# Altium integrated library Antenna.IntLib: 4 symbols
Pins are listed as number, name and electrical type; pins without a type are passive.

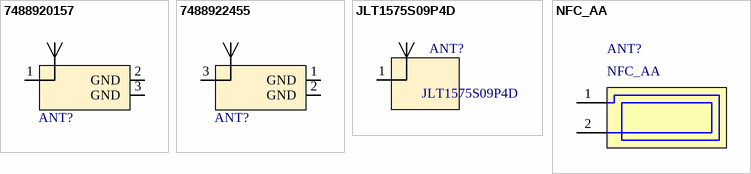
[diagram p0: symbols 7488920157 to NFC_AA]

## 7488920157
designator ANT?  (value not drawn)
We-mca Smt-multilayer Chip Anten; Manufacturer: Wurth Elektronik; Frequency Range: 1550-1600MHz; Impedance: 50Ω; Number of Bands: 1; Peak Gain: 3.4dBi; VSWR: 2; Purpose Of Usage: BASIC; ComponentLink2URL: https://www.we-online.com/redexpert/spec/7488920157?ad; Manufacturer Part Number: 7488920157; Category: ANTENNAS; Mount: SMD; Operating Temperature Max: 85°C; Operating Temperature Min: -40°C; Packaging: Tape and Reel; Length: 5.2mm; Width: 3.7mm; Height: 0.7mm; Sub-Category: CHIP ANTENNA; Local Supplier: WURTH; Price 10K: 0.225; Supplier 1: Digi-Key; RoHS: YES; Supplier Part Number 1: 732-7488920157TR-ND; Stock ID: ??
footprint 7488920157
pins: 1 Feed, 2 GND, 3 GND

## 7488922455
designator ANT?  (value not drawn)
We-mca Smt-multilayer Chip Anten; Manufacturer: Wurth Elektronik; Frequency Range: 2400-2500MHz; Frequency Range 2: 5000-6000MHz; Impedance: 50Ω; Number of Bands: 2; Peak Gain: 3dBi; Peak Gain 2: 3.3dBi; Purpose Of Usage: BASIC; ComponentLink2URL: https://www.we-online.com/redexpert/spec/7488922455?ad; Manufacturer Part Number: 7488922455; Category: ANTENNAS; Mount: SMD; Operating Temperature Max: 85°C; Operating Temperature Min: -40°C; Packaging: Tape and Reel; Length: 5.2mm; Width: 3.7mm; Height: 0.7mm; VSWR: 2; VSWR 2: 2; Supplier 1: Digi-Key; RoHS: YES; Sub-Category: CHIP ANTENNA; Local Supplier: WURTH; Price 10K: 0.23; Supplier Part Number 1: 732-7488922455TR-ND; Stock ID: ??
footprint 7488922455
pins: 1 GND, 2 GND, 3 Feed

## JLT1575S09P4D
designator ANT?
Patch Antenna; Manufacturer: Jiaxing Jinling Electronic; Frequency Range: 1570-1580MHz; Impedance: 50Ω; Purpose Of Usage: BASIC; Category: ANTENNAS; Height: 4mm; Length: 9mm; Local Supplier: JC ANTENNA; Manufacturer Part Number: JLT1575S09P4D; Mount: THT; Operating Temperature Max: 85°C; Operating Temperature Min: -40°C; Packaging: Tape and Reel; Sub-Category: GNSS PATCH ANTENNA; Stock ID: ??
footprint JLT1575S09P4D
pins: 1 Feed

## NFC_AA
designator ANT?  (no BOM)
AA versiyon NFC Antenna
footprint EGA_NFC_AA
pins: 1, 2